# Altium integrated library Integrated_Library1.IntLib: 1 symbol
Pins are listed as number, name and electrical type; pins without a type are passive.

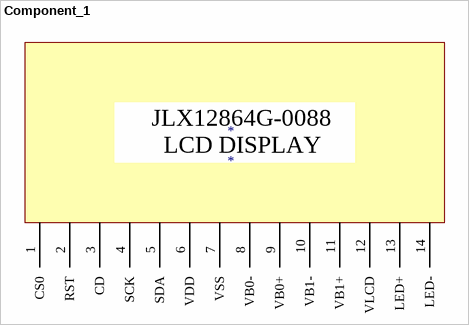
[diagram p0: symbol Component_1]

## Component_1
designator *
footprint PCBComponent_1
pins: 1 CS0, 2 RST, 3 CD, 4 SCK, 5 SDA, 6 VDD, 7 VSS, 8 VB0-, 9 VB0+, 10 VB1-, 11 VB1+, 12 VLCD, 13 LED+, 14 LED-
text: JLX12864G-0088 / LCD DISPLAY